# EAGLE library part T60403-K5024-X099 (library plc_lib)
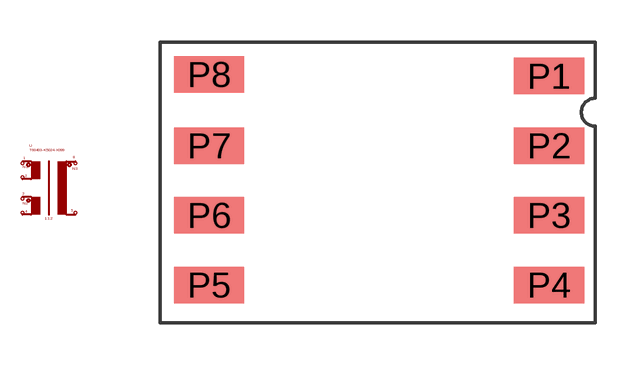
[diagram p0: symbol with the pads of PLCTRNSFTI_PADPOSITION; footprint PLCTRNSFTI_PADPOSITION]

Designator prefix -

## T60403-K5024-X099  [PLCTRNSFTI_PADPOSITION]
P1  P$1
P2  P$2
P3  P$3
P4  P$4
P5  P$5
P8  P$6

## Footprint PLCTRNSFTI_PADPOSITION (pad centres in mm)
smd 2.5 x 1.3: P1 13.35,-0.71; P2 13.35,-3.19; P3 13.35,-5.67; P4 13.35,-8.15; P5 1.25,-8.15; P6 1.25,-5.67; P7 1.25,-3.19; P8 1.25,-0.65